# Altium footprint library IDC-TH_16P-P2.54_C3406.PcbLib: 1 footprints
Each footprint in its own frame and in the unit in brackets; x right, y up, seen from the top. Pads: shape width x height; smd on the part's side, far side on the other; paste and mask are expansions set on the pad; w line width, h text height; cw(c..) or ccw(c..) is an arc to the next point about the centre after c.
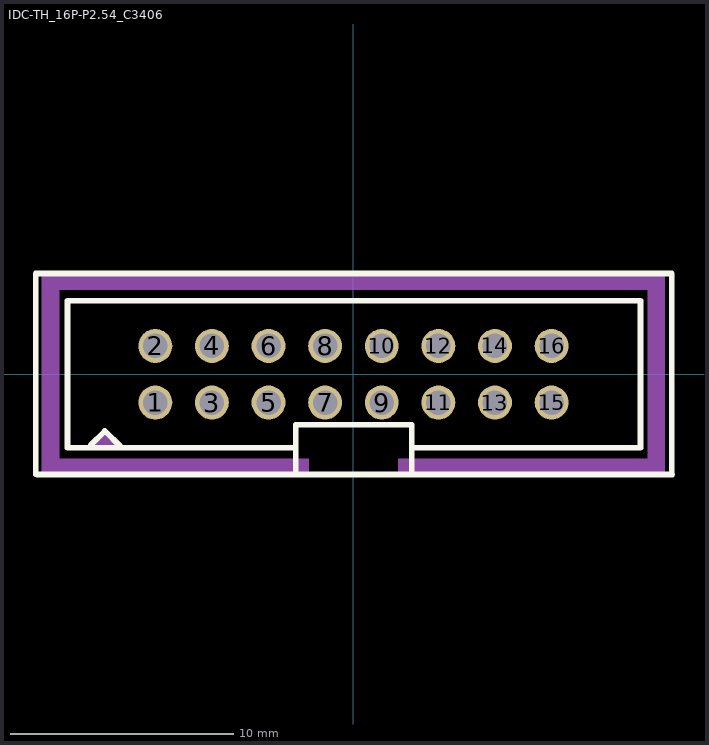
[diagram p0: the footprint, top view; thin cyan lines are the x and y axes]

## IDC-TH_16P-P2.54_C3406 [mil]
pads (16):
  round 60 hole 43.3 paste+2: 1(-350,-50) 2(-350,50) 3(-250,-50) 4(-250,50) 5(-150,-50) 6(-150,50) 7(-50,-50) 8(-50,50) 9(50,-50) 10(50,50) 11(150,-50) 12(150,50) 13(250,-50) 14(250,50) 15(350,-50) 16(350,50)
Top Overlay:
  lines w10: -561,-176.33 -561,178 ; -559.9,178 562.2,178 ; -558.9,-177 562.99,-177 ; -505,-130 -103,-130 -102,-129 ; -505,-129 -505,129.66 ; -504.66,130 507.09,130 ; -464,-125 -439,-100 -412,-127 -412,-128 ; -102,-176 -102,-91 ; -102,-89 103,-89 103,-176 104,-177 ; 104,-131 104,-130 507,-130 ; 507,-129 507,129.66 ; 562,-176.33 562,178
Mechanical 2:
  region: -465,-130 -412,-130 -439,-100
  region: -78.74,-173.23 -549.61,-173.23 -549.61,173.23 549.61,173.23 549.61,-173.23 78.74,-173.23 78.74,-149.61 519.68,-149.61 519.68,149.61 -519.68,149.61 -519.68,-149.61 -78.74,-149.61
Mechanical 6:
  lines w2: -549.61,-173.23 -549.61,173.23 549.61,173.23 549.61,-173.23 -549.61,-173.23
Mechanical 8:
  region: -547.05,-173.23 -547.8,-175.04 -549.61,-175.79 -551.42,-175.04 -552.17,-173.23 -551.42,-171.42 -549.61,-170.67 -547.8,-171.42
Mechanical 9:
  region: 337.4,62.6 362.6,62.6 362.6,37.4 337.4,37.4
  region: 337.4,-37.4 362.6,-37.4 362.6,-62.6 337.4,-62.6
  region: 237.4,62.6 262.6,62.6 262.6,37.4 237.4,37.4
  region: 237.4,-37.4 262.6,-37.4 262.6,-62.6 237.4,-62.6
  region: 137.4,62.6 162.6,62.6 162.6,37.4 137.4,37.4
  region: 137.4,-37.4 162.6,-37.4 162.6,-62.6 137.4,-62.6
  region: 37.4,62.6 62.6,62.6 62.6,37.4 37.4,37.4
  region: 37.4,-37.4 62.6,-37.4 62.6,-62.6 37.4,-62.6
  region: -62.6,62.6 -37.4,62.6 -37.4,37.4 -62.6,37.4
  region: -62.6,-37.4 -37.4,-37.4 -37.4,-62.6 -62.6,-62.6
  region: -162.6,62.6 -137.4,62.6 -137.4,37.4 -162.6,37.4
  region: -162.6,-37.4 -137.4,-37.4 -137.4,-62.6 -162.6,-62.6
  region: -262.6,62.6 -237.4,62.6 -237.4,37.4 -262.6,37.4
  region: -262.6,-37.4 -237.4,-37.4 -237.4,-62.6 -262.6,-62.6
  region: -362.6,62.6 -337.4,62.6 -337.4,37.4 -362.6,37.4
  region: -362.6,-37.4 -337.4,-37.4 -337.4,-62.6 -362.6,-62.6